# Altium integrated library TI Amplifiers and Linear Instrumentation Amplifier.IntLib: 274 symbols (part 8 of 10)
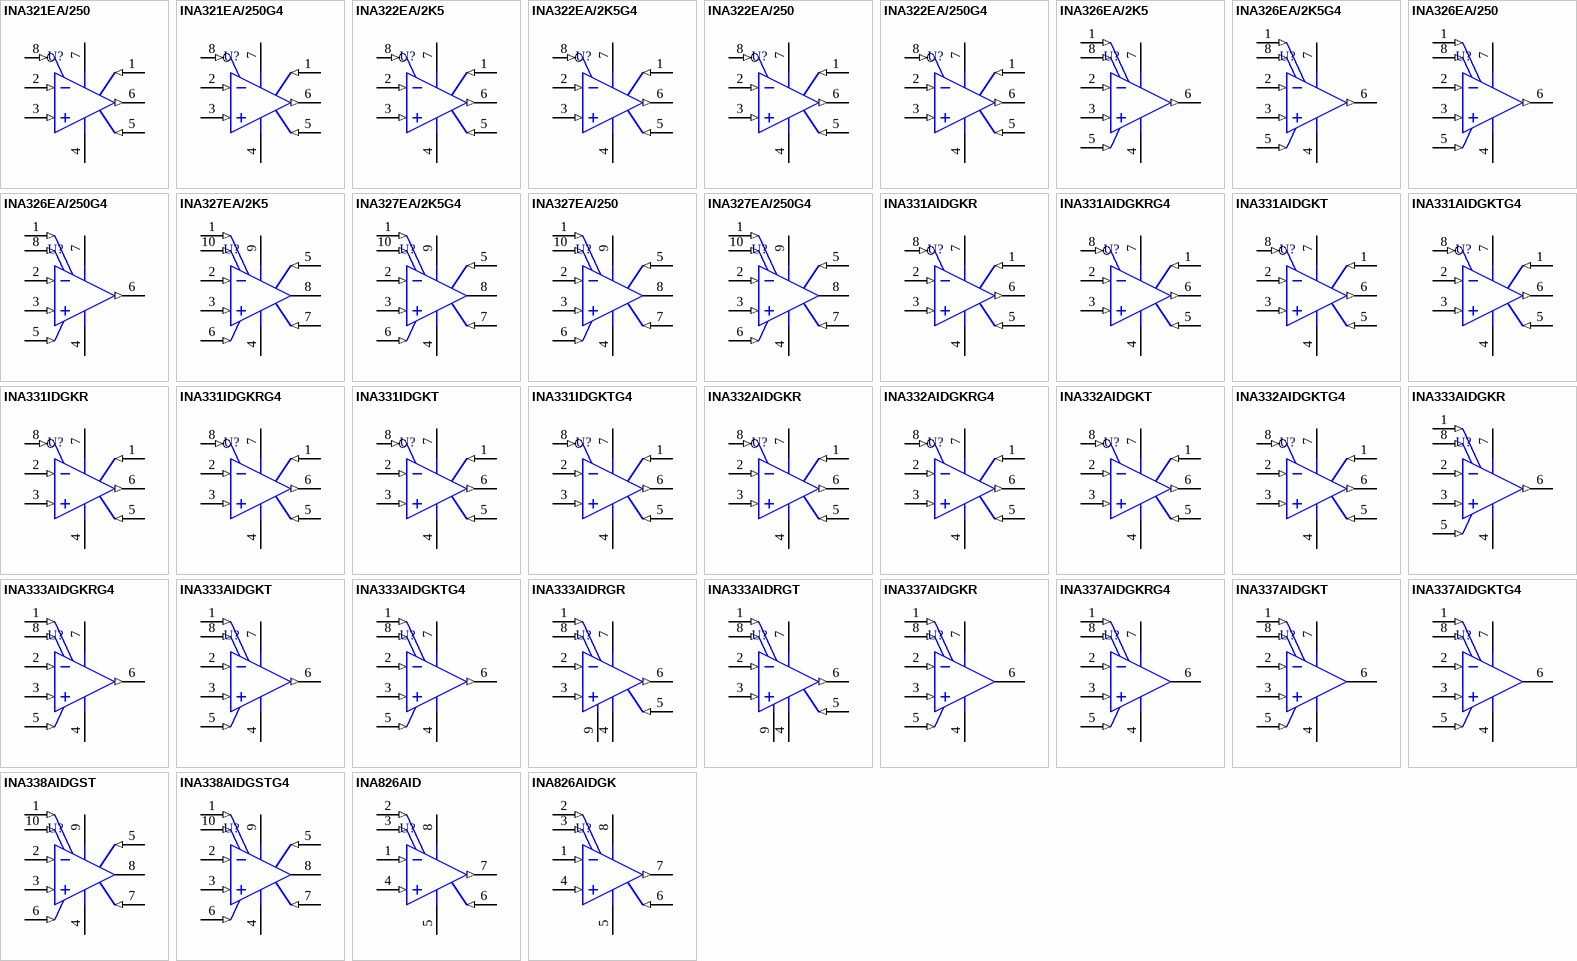
[diagram p15: symbols INA321EA/250 to INA826AIDGK]

## INA321EA/250
designator U?
Micropower Single-Supply CMOS Instrumentation Amplifier, -55 to 125 degC, 8-pin SOP (DGK8), Green (RoHS & no Sb/Br); Manufacturer: Texas Instruments; PartNumber: INA321EA/250; Bandwidth at G: 100(Min)(kHz)=50; CMRR(Min)(dB): 80; Gain(V/V): 5 to 1000; Input Bias Current (+/-)(Max)(nA): 0.01; Input Offset (+/-)(Max)(uV): 1000; Noise at 1kHz(Typ)(nV/rt(Hz)): 100; Number of Channels: 1; Quiescent Current (+/-)(Typ)(mA): 0.04; SubFamily: Single Supply; Vs(Max)(V): 5.5; Vs(Min)(V): 2.5; DatasheetVersion: SBOS168D; PackageVersion: 4073329/E, 05/2006; PackageReference: DGK8; PackageDescription: 8-Pin Thin Small Outline, Body 3 x 3 mm, Pitch 0.65 mm; Supplier 1: Digi-Key; Supplier Part Number 1: INA321EATR-ND; Supplier 2: Digi-Key; Supplier Part Number 2: INA321EACT-ND; Supplier 3: Digi-Key; Supplier Part Number 3: INA321EADKR-ND; Supplier 4: Newark; Supplier Part Number 4: 74C9871; Supplier 5: Mouser; Supplier Part Number 5: 595-INA321EA/250; Eco-Plan: Green (RoHS & no Sb/Br); Non-Linearity (+/-)(Max)(%): 0.01; Mounting Technology: Surface Mount; Code_JEDEC: MO-187; ComponentLink1Description: Manufacturer URL; ComponentLink1URL: http://www.ti.com/; ComponentLink2Description: Datasheet; ComponentLink2URL: http://www.ti.com/general/docs/lit/getliterature.tsp?genericPartNumber=INA321&fileType=pdf; ComponentLink3Description: Package Specification; ComponentLink3URL: http://www.ti.com/litv/pdf/mpds028d
footprint TI-DGK8_N (SOP, 8-Leads, Body 3.1x3.1mm, Pitch 0.65mm, IPC Medium Density)
footprint TI-DGK8_L (SOP, 8-Leads, Body 3.1x3.1mm, Pitch 0.65mm, IPC High Density)
footprint TI-DGK8_M (SOP, 8-Leads, Body 3.1x3.1mm, Pitch 0.65mm, IPC Low Density)
pins: 1 RG (in), 2 VIN- (in), 3 VIN+ (in), 4 V- (power), 5 REF (in), 6 VOUT (out), 7 V+ (power), 8 SHUTDOWN (in)

## INA321EA/250G4
designator U?
Micropower Single-Supply CMOS Instrumentation Amplifier, -55 to 125 degC, 8-pin SOP (DGK8), Green (RoHS & no Sb/Br); Manufacturer: Texas Instruments; PartNumber: INA321EA/250G4; Bandwidth at G: 100(Min)(kHz)=50; CMRR(Min)(dB): 80; Gain(V/V): 5 to 1000; Input Bias Current (+/-)(Max)(nA): 0.01; Input Offset (+/-)(Max)(uV): 1000; Noise at 1kHz(Typ)(nV/rt(Hz)): 100; Number of Channels: 1; Quiescent Current (+/-)(Typ)(mA): 0.04; SubFamily: Single Supply; Vs(Max)(V): 5.5; Vs(Min)(V): 2.5; DatasheetVersion: SBOS168D; PackageVersion: 4073329/E, 05/2006; PackageReference: DGK8; PackageDescription: 8-Pin Thin Small Outline, Body 3 x 3 mm, Pitch 0.65 mm; Supplier 1: Digi-Key; Supplier Part Number 1: INA321EA/250G4-ND; Supplier 2: Farnell; Supplier Part Number 2: 1206912; Supplier 3: Farnell; Supplier Part Number 3: 1206912RL; Supplier 4: Newark; Supplier Part Number 4: 96K5041; Supplier 5: Mouser; Supplier Part Number 5: 595-INA321EA/250G4; Eco-Plan: Green (RoHS & no Sb/Br); Non-Linearity (+/-)(Max)(%): 0.01; Mounting Technology: Surface Mount; Code_JEDEC: MO-187; ComponentLink1Description: Manufacturer URL; ComponentLink1URL: http://www.ti.com/; ComponentLink2Description: Datasheet; ComponentLink2URL: http://www.ti.com/general/docs/lit/getliterature.tsp?genericPartNumber=INA321&fileType=pdf; ComponentLink3Description: Package Specification; ComponentLink3URL: http://www.ti.com/litv/pdf/mpds028d
footprint TI-DGK8_N (SOP, 8-Leads, Body 3.1x3.1mm, Pitch 0.65mm, IPC Medium Density)
footprint TI-DGK8_L (SOP, 8-Leads, Body 3.1x3.1mm, Pitch 0.65mm, IPC High Density)
footprint TI-DGK8_M (SOP, 8-Leads, Body 3.1x3.1mm, Pitch 0.65mm, IPC Low Density)
pins: 1 RG (in), 2 VIN- (in), 3 VIN+ (in), 4 V- (power), 5 REF (in), 6 VOUT (out), 7 V+ (power), 8 SHUTDOWN (in)

## INA322EA/2K5
designator U?
Micropower Single-Supply CMOS Instrumentation Amplifier, -55 to 125 degC, 8-pin SOP (DGK8), Green (RoHS & no Sb/Br); Manufacturer: Texas Instruments; PartNumber: INA322EA/2K5; CMRR(Min)(dB): 60; Gain(V/V): 5 to 1000; Input Bias Current (+/-)(Max)(nA): 0.01; Input Offset (+/-)(Max)(uV): 10000; Noise at 1kHz(Typ)(nV/rt(Hz)): 100; Number of Channels: 1; Quiescent Current (+/-)(Typ)(mA): 0.04; SubFamily: Single Supply; Vs(Max)(V): 5.5; Vs(Min)(V): 2.5; DatasheetVersion: SBOS174B; PackageVersion: 4073329/E, 05/2006; PackageReference: DGK8; PackageDescription: 8-Pin Thin Small Outline, Body 3 x 3 mm, Pitch 0.65 mm; Supplier 1: Digi-Key; Supplier Part Number 1: INA322EA/2K5-ND; Supplier 2: Mouser; Supplier Part Number 2: 595-INA322EA/2K5; Eco-Plan: Green (RoHS & no Sb/Br); Non-Linearity (+/-)(Max)(%): 0.01; Mounting Technology: Surface Mount; Code_JEDEC: MO-187; ComponentLink1Description: Manufacturer URL; ComponentLink1URL: http://www.ti.com/; ComponentLink2Description: Datasheet; ComponentLink2URL: http://www.ti.com/general/docs/lit/getliterature.tsp?genericPartNumber=INA322&fileType=pdf; ComponentLink3Description: Package Specification; ComponentLink3URL: http://www.ti.com/litv/pdf/mpds028d
footprint TI-DGK8_N (SOP, 8-Leads, Body 3.1x3.1mm, Pitch 0.65mm, IPC Medium Density)
footprint TI-DGK8_L (SOP, 8-Leads, Body 3.1x3.1mm, Pitch 0.65mm, IPC High Density)
footprint TI-DGK8_M (SOP, 8-Leads, Body 3.1x3.1mm, Pitch 0.65mm, IPC Low Density)
pins: 1 RG (in), 2 VIN- (in), 3 VIN+ (in), 4 V- (power), 5 REF (in), 6 VOUT (out), 7 V+ (power), 8 SHUTDOWN (in)

## INA322EA/2K5G4
designator U?
Micropower Single-Supply CMOS Instrumentation Amplifier, -55 to 125 degC, 8-pin SOP (DGK8), Green (RoHS & no Sb/Br); Manufacturer: Texas Instruments; PartNumber: INA322EA/2K5G4; CMRR(Min)(dB): 60; Gain(V/V): 5 to 1000; Input Bias Current (+/-)(Max)(nA): 0.01; Input Offset (+/-)(Max)(uV): 10000; Noise at 1kHz(Typ)(nV/rt(Hz)): 100; Number of Channels: 1; Quiescent Current (+/-)(Typ)(mA): 0.04; SubFamily: Single Supply; Vs(Max)(V): 5.5; Vs(Min)(V): 2.5; DatasheetVersion: SBOS174B; PackageVersion: 4073329/E, 05/2006; PackageReference: DGK8; PackageDescription: 8-Pin Thin Small Outline, Body 3 x 3 mm, Pitch 0.65 mm; Supplier 1: Digi-Key; Supplier Part Number 1: INA322EA/2K5G4-ND; Supplier 2: Mouser; Supplier Part Number 2: 595-INA322EA/2K5G4; Eco-Plan: Green (RoHS & no Sb/Br); Non-Linearity (+/-)(Max)(%): 0.01; Mounting Technology: Surface Mount; Code_JEDEC: MO-187; ComponentLink1Description: Manufacturer URL; ComponentLink1URL: http://www.ti.com/; ComponentLink2Description: Datasheet; ComponentLink2URL: http://www.ti.com/general/docs/lit/getliterature.tsp?genericPartNumber=INA322&fileType=pdf; ComponentLink3Description: Package Specification; ComponentLink3URL: http://www.ti.com/litv/pdf/mpds028d
footprint TI-DGK8_N (SOP, 8-Leads, Body 3.1x3.1mm, Pitch 0.65mm, IPC Medium Density)
footprint TI-DGK8_L (SOP, 8-Leads, Body 3.1x3.1mm, Pitch 0.65mm, IPC High Density)
footprint TI-DGK8_M (SOP, 8-Leads, Body 3.1x3.1mm, Pitch 0.65mm, IPC Low Density)
pins: 1 RG (in), 2 VIN- (in), 3 VIN+ (in), 4 V- (power), 5 REF (in), 6 VOUT (out), 7 V+ (power), 8 SHUTDOWN (in)

## INA322EA/250
designator U?
Micropower Single-Supply CMOS Instrumentation Amplifier, -55 to 125 degC, 8-pin SOP (DGK8), Green (RoHS & no Sb/Br); Manufacturer: Texas Instruments; PartNumber: INA322EA/250; CMRR(Min)(dB): 60; Gain(V/V): 5 to 1000; Input Bias Current (+/-)(Max)(nA): 0.01; Input Offset (+/-)(Max)(uV): 10000; Noise at 1kHz(Typ)(nV/rt(Hz)): 100; Number of Channels: 1; Quiescent Current (+/-)(Typ)(mA): 0.04; SubFamily: Single Supply; Vs(Max)(V): 5.5; Vs(Min)(V): 2.5; DatasheetVersion: SBOS174B; PackageVersion: 4073329/E, 05/2006; PackageReference: DGK8; PackageDescription: 8-Pin Thin Small Outline, Body 3 x 3 mm, Pitch 0.65 mm; Supplier 1: Digi-Key; Supplier Part Number 1: INA322EATR-ND; Supplier 2: Digi-Key; Supplier Part Number 2: INA322EACT-ND; Supplier 3: Digi-Key; Supplier Part Number 3: INA322EADKR-ND; Supplier 4: Farnell; Supplier Part Number 4: 1645384; Supplier 5: Newark; Supplier Part Number 5: 74C9873; Supplier 6: Mouser; Supplier Part Number 6: 595-INA322EA/250; Eco-Plan: Green (RoHS & no Sb/Br); Non-Linearity (+/-)(Max)(%): 0.01; Mounting Technology: Surface Mount; Code_JEDEC: MO-187; ComponentLink1Description: Manufacturer URL; ComponentLink1URL: http://www.ti.com/; ComponentLink2Description: Datasheet; ComponentLink2URL: http://www.ti.com/general/docs/lit/getliterature.tsp?genericPartNumber=INA322&fileType=pdf; ComponentLink3Description: Package Specification; ComponentLink3URL: http://www.ti.com/litv/pdf/mpds028d
footprint TI-DGK8_N (SOP, 8-Leads, Body 3.1x3.1mm, Pitch 0.65mm, IPC Medium Density)
footprint TI-DGK8_L (SOP, 8-Leads, Body 3.1x3.1mm, Pitch 0.65mm, IPC High Density)
footprint TI-DGK8_M (SOP, 8-Leads, Body 3.1x3.1mm, Pitch 0.65mm, IPC Low Density)
pins: 1 RG (in), 2 VIN- (in), 3 VIN+ (in), 4 V- (power), 5 REF (in), 6 VOUT (out), 7 V+ (power), 8 SHUTDOWN (in)

## INA322EA/250G4
designator U?
Micropower Single-Supply CMOS Instrumentation Amplifier, -55 to 125 degC, 8-pin SOP (DGK8), Green (RoHS & no Sb/Br); Manufacturer: Texas Instruments; PartNumber: INA322EA/250G4; CMRR(Min)(dB): 60; Gain(V/V): 5 to 1000; Input Bias Current (+/-)(Max)(nA): 0.01; Input Offset (+/-)(Max)(uV): 10000; Noise at 1kHz(Typ)(nV/rt(Hz)): 100; Number of Channels: 1; Quiescent Current (+/-)(Typ)(mA): 0.04; SubFamily: Single Supply; Vs(Max)(V): 5.5; Vs(Min)(V): 2.5; DatasheetVersion: SBOS174B; PackageVersion: 4073329/E, 05/2006; PackageReference: DGK8; PackageDescription: 8-Pin Thin Small Outline, Body 3 x 3 mm, Pitch 0.65 mm; Supplier 1: Digi-Key; Supplier Part Number 1: INA322EA/250G4-ND; Supplier 2: Mouser; Supplier Part Number 2: 595-INA322EA/250G4; Eco-Plan: Green (RoHS & no Sb/Br); Non-Linearity (+/-)(Max)(%): 0.01; Mounting Technology: Surface Mount; Code_JEDEC: MO-187; ComponentLink1Description: Manufacturer URL; ComponentLink1URL: http://www.ti.com/; ComponentLink2Description: Datasheet; ComponentLink2URL: http://www.ti.com/general/docs/lit/getliterature.tsp?genericPartNumber=INA322&fileType=pdf; ComponentLink3Description: Package Specification; ComponentLink3URL: http://www.ti.com/litv/pdf/mpds028d
footprint TI-DGK8_N (SOP, 8-Leads, Body 3.1x3.1mm, Pitch 0.65mm, IPC Medium Density)
footprint TI-DGK8_L (SOP, 8-Leads, Body 3.1x3.1mm, Pitch 0.65mm, IPC High Density)
footprint TI-DGK8_M (SOP, 8-Leads, Body 3.1x3.1mm, Pitch 0.65mm, IPC Low Density)
pins: 1 RG (in), 2 VIN- (in), 3 VIN+ (in), 4 V- (power), 5 REF (in), 6 VOUT (out), 7 V+ (power), 8 SHUTDOWN (in)

## INA326EA/2K5
designator U?
Precision, Low Drift, CMOS Instrumentation Amplifier, -40 to 85 degC, 8-pin SOP (DGK8), Green (RoHS & no Sb/Br); Manufacturer: Texas Instruments; PartNumber: INA326EA/2K5; CMRR(Min)(dB): 100; Gain(V/V): Less than 0.1 to Greater than 1000; Input Bias Current (+/-)(Max)(nA): 2; Input Offset Drift (+/-)(Max)(uV/Degrees Celsius): 0.4; Noise at 1kHz(Typ)(nV/rt(Hz)): 33; Non-Linearity (+/-)(Max)(%): 0.01; Number of Channels: 1; Quiescent Current (+/-)(Typ)(mA): 2.4; SubFamily: Single Supply; Vs(Max)(V): 5.5; Vs(Min)(V): 2.7; DatasheetVersion: SBOS222D; PackageVersion: 4073329/E, 05/2006; PackageReference: DGK8; PackageDescription: 8-Pin Thin Small Outline, Body 3 x 3 mm, Pitch 0.65 mm; Supplier 1: Digi-Key; Supplier Part Number 1: INA326EA/2K5TR-ND; Supplier 2: Digi-Key; Supplier Part Number 2: INA326EA/2K5CT-ND; Supplier 3: Digi-Key; Supplier Part Number 3: INA326EA/2K5DKR-ND; Supplier 4: Farnell; Supplier Part Number 4: 1575438; Supplier 5: Newark; Supplier Part Number 5: 74C9874; Supplier 6: Newark; Supplier Part Number 6: 28X4261; Supplier 7: Mouser; Supplier Part Number 7: 595-INA326EA/2K5; Eco-Plan: Green (RoHS & no Sb/Br); Input Offset (+/-)(Max)(uV): 100; Mounting Technology: Surface Mount; Code_JEDEC: MO-187; ComponentLink1Description: Manufacturer URL; ComponentLink1URL: http://www.ti.com/; ComponentLink2Description: Datasheet; ComponentLink2URL: http://www.ti.com/general/docs/lit/getliterature.tsp?genericPartNumber=INA326&fileType=pdf; ComponentLink3Description: Package Specification; ComponentLink3URL: http://www.ti.com/litv/pdf/mpds028d
footprint TI-DGK8_N (SOP, 8-Leads, Body 3.1x3.1mm, Pitch 0.65mm, IPC Medium Density)
footprint TI-DGK8_L (SOP, 8-Leads, Body 3.1x3.1mm, Pitch 0.65mm, IPC High Density)
footprint TI-DGK8_M (SOP, 8-Leads, Body 3.1x3.1mm, Pitch 0.65mm, IPC Low Density)
pins: 1 R1 (in), 2 VIN- (in), 3 VIN+ (in), 4 V- (power), 5 R2 (in), 6 VO (out), 7 V+ (power), 8 R1 (in)

## INA326EA/2K5G4
designator U?
Precision, Low Drift, CMOS Instrumentation Amplifier, -40 to 85 degC, 8-pin SOP (DGK8), Green (RoHS & no Sb/Br); Manufacturer: Texas Instruments; PartNumber: INA326EA/2K5G4; CMRR(Min)(dB): 100; Gain(V/V): Less than 0.1 to Greater than 1000; Input Bias Current (+/-)(Max)(nA): 2; Input Offset Drift (+/-)(Max)(uV/Degrees Celsius): 0.4; Noise at 1kHz(Typ)(nV/rt(Hz)): 33; Non-Linearity (+/-)(Max)(%): 0.01; Number of Channels: 1; Quiescent Current (+/-)(Typ)(mA): 2.4; SubFamily: Single Supply; Vs(Max)(V): 5.5; Vs(Min)(V): 2.7; DatasheetVersion: SBOS222D; PackageVersion: 4073329/E, 05/2006; PackageReference: DGK8; PackageDescription: 8-Pin Thin Small Outline, Body 3 x 3 mm, Pitch 0.65 mm; Supplier 1: Digi-Key; Supplier Part Number 1: INA326EA/2K5G4-ND; Supplier 2: Newark; Supplier Part Number 2: 70K2796; Supplier 3: Mouser; Supplier Part Number 3: 595-INA326EA/2K5G4; Eco-Plan: Green (RoHS & no Sb/Br); Input Offset (+/-)(Max)(uV): 100; Mounting Technology: Surface Mount; Code_JEDEC: MO-187; ComponentLink1Description: Manufacturer URL; ComponentLink1URL: http://www.ti.com/; ComponentLink2Description: Datasheet; ComponentLink2URL: http://www.ti.com/general/docs/lit/getliterature.tsp?genericPartNumber=INA326&fileType=pdf; ComponentLink3Description: Package Specification; ComponentLink3URL: http://www.ti.com/litv/pdf/mpds028d
footprint TI-DGK8_N (SOP, 8-Leads, Body 3.1x3.1mm, Pitch 0.65mm, IPC Medium Density)
footprint TI-DGK8_L (SOP, 8-Leads, Body 3.1x3.1mm, Pitch 0.65mm, IPC High Density)
footprint TI-DGK8_M (SOP, 8-Leads, Body 3.1x3.1mm, Pitch 0.65mm, IPC Low Density)
pins: 1 R1 (in), 2 VIN- (in), 3 VIN+ (in), 4 V- (power), 5 R2 (in), 6 VO (out), 7 V+ (power), 8 R1 (in)

## INA326EA/250
designator U?
Precision, Low Drift, CMOS Instrumentation Amplifier, -40 to 85 degC, 8-pin SOP (DGK8), Green (RoHS & no Sb/Br); Manufacturer: Texas Instruments; PartNumber: INA326EA/250; CMRR(Min)(dB): 100; Gain(V/V): Less than 0.1 to Greater than 1000; Input Bias Current (+/-)(Max)(nA): 2; Input Offset Drift (+/-)(Max)(uV/Degrees Celsius): 0.4; Noise at 1kHz(Typ)(nV/rt(Hz)): 33; Non-Linearity (+/-)(Max)(%): 0.01; Number of Channels: 1; Quiescent Current (+/-)(Typ)(mA): 2.4; SubFamily: Single Supply; Vs(Max)(V): 5.5; Vs(Min)(V): 2.7; DatasheetVersion: SBOS222D; PackageVersion: 4073329/E, 05/2006; PackageReference: DGK8; PackageDescription: 8-Pin Thin Small Outline, Body 3 x 3 mm, Pitch 0.65 mm; Supplier 1: Digi-Key; Supplier Part Number 1: 296-15312-2-ND; Supplier 2: Digi-Key; Supplier Part Number 2: 296-15312-1-ND; Supplier 3: Digi-Key; Supplier Part Number 3: 296-15312-6-ND; Supplier 4: Farnell; Supplier Part Number 4: 1218192; Supplier 5: Newark; Supplier Part Number 5: 74K3817; Supplier 6: Newark; Supplier Part Number 6: 28X4262; Supplier 7: Mouser; Supplier Part Number 7: 595-INA326EA/250; Eco-Plan: Green (RoHS & no Sb/Br); Input Offset (+/-)(Max)(uV): 100; Mounting Technology: Surface Mount; Code_JEDEC: MO-187; ComponentLink1Description: Manufacturer URL; ComponentLink1URL: http://www.ti.com/; ComponentLink2Description: Datasheet; ComponentLink2URL: http://www.ti.com/general/docs/lit/getliterature.tsp?genericPartNumber=INA326&fileType=pdf; ComponentLink3Description: Package Specification; ComponentLink3URL: http://www.ti.com/litv/pdf/mpds028d
footprint TI-DGK8_N (SOP, 8-Leads, Body 3.1x3.1mm, Pitch 0.65mm, IPC Medium Density)
footprint TI-DGK8_L (SOP, 8-Leads, Body 3.1x3.1mm, Pitch 0.65mm, IPC High Density)
footprint TI-DGK8_M (SOP, 8-Leads, Body 3.1x3.1mm, Pitch 0.65mm, IPC Low Density)
pins: 1 R1 (in), 2 VIN- (in), 3 VIN+ (in), 4 V- (power), 5 R2 (in), 6 VO (out), 7 V+ (power), 8 R1 (in)

## INA326EA/250G4
designator U?
Precision, Low Drift, CMOS Instrumentation Amplifier, -40 to 85 degC, 8-pin SOP (DGK8), Green (RoHS & no Sb/Br); Manufacturer: Texas Instruments; PartNumber: INA326EA/250G4; CMRR(Min)(dB): 100; Gain(V/V): Less than 0.1 to Greater than 1000; Input Bias Current (+/-)(Max)(nA): 2; Input Offset Drift (+/-)(Max)(uV/Degrees Celsius): 0.4; Noise at 1kHz(Typ)(nV/rt(Hz)): 33; Non-Linearity (+/-)(Max)(%): 0.01; Number of Channels: 1; Quiescent Current (+/-)(Typ)(mA): 2.4; SubFamily: Single Supply; Vs(Max)(V): 5.5; Vs(Min)(V): 2.7; DatasheetVersion: SBOS222D; PackageVersion: 4073329/E, 05/2006; PackageReference: DGK8; PackageDescription: 8-Pin Thin Small Outline, Body 3 x 3 mm, Pitch 0.65 mm; Supplier 1: Digi-Key; Supplier Part Number 1: INA326EA/250G4-ND; Supplier 2: Farnell; Supplier Part Number 2: 1234688; Supplier 3: Farnell; Supplier Part Number 3: 1234688RL; Supplier 4: Newark; Supplier Part Number 4: 13M1606; Supplier 5: Newark; Supplier Part Number 5: 70K2797; Supplier 6: Mouser; Supplier Part Number 6: 595-INA326EA/250G4; Eco-Plan: Green (RoHS & no Sb/Br); Input Offset (+/-)(Max)(uV): 100; Mounting Technology: Surface Mount; Code_JEDEC: MO-187; ComponentLink1Description: Manufacturer URL; ComponentLink1URL: http://www.ti.com/; ComponentLink2Description: Datasheet; ComponentLink2URL: http://www.ti.com/general/docs/lit/getliterature.tsp?genericPartNumber=INA326&fileType=pdf; ComponentLink3Description: Package Specification; ComponentLink3URL: http://www.ti.com/litv/pdf/mpds028d
footprint TI-DGK8_N (SOP, 8-Leads, Body 3.1x3.1mm, Pitch 0.65mm, IPC Medium Density)
footprint TI-DGK8_L (SOP, 8-Leads, Body 3.1x3.1mm, Pitch 0.65mm, IPC High Density)
footprint TI-DGK8_M (SOP, 8-Leads, Body 3.1x3.1mm, Pitch 0.65mm, IPC Low Density)
pins: 1 R1 (in), 2 VIN- (in), 3 VIN+ (in), 4 V- (power), 5 R2 (in), 6 VO (out), 7 V+ (power), 8 R1 (in)

## INA327EA/2K5
designator U?
Precision, Low Drift, CMOS Instrumentation Amplifier with Shutdown, -40 to 85 degC, 10-pin SOP (DGS10), Green (RoHS & no Sb/Br); Manufacturer: Texas Instruments; PartNumber: INA327EA/2K5; CMRR(Min)(dB): 100; Gain(V/V): Less than 0.1 to Greater than 1000; Input Bias Current (+/-)(Max)(nA): 2; Input Offset Drift (+/-)(Max)(uV/Degrees Celsius): 0.4; Noise at 1kHz(Typ)(nV/rt(Hz)): 33; Non-Linearity (+/-)(Max)(%): 0.01; Number of Channels: 1; Quiescent Current (+/-)(Typ)(mA): 2.4; SubFamily: Single Supply; Vs(Max)(V): 5.5; Vs(Min)(V): 2.7; DatasheetVersion: SBOS222D; PackageVersion: 4073272/C, 02/2004; PackageReference: DGS10; PackageDescription: 10-Pin Plastic Small Outline, Body 3 x 3 mm, Pitch 0.5 mm; Supplier 1: Digi-Key; Supplier Part Number 1: INA327EA/2K5TR-ND; Supplier 2: Digi-Key; Supplier Part Number 2: INA327EA/2K5CT-ND; Supplier 3: Digi-Key; Supplier Part Number 3: INA327EA/2K5DKR-ND; Supplier 4: Mouser; Supplier Part Number 4: 595-INA327EA/2K5; Eco-Plan: Green (RoHS & no Sb/Br); Input Offset (+/-)(Max)(uV): 100; Mounting Technology: Surface Mount; Code_JEDEC: MO-153; ComponentLink1Description: Manufacturer URL; ComponentLink1URL: http://www.ti.com/; ComponentLink2Description: Datasheet; ComponentLink2URL: http://www.ti.com/general/docs/lit/getliterature.tsp?genericPartNumber=INA327&fileType=pdf; ComponentLink3Description: Package Specification; ComponentLink3URL: http://www.ti.com/lit/ml/mpds035b/mpds035b.pdf
footprint TI-DGS10_N (SOP, 10-Leads, Body 3.1x3.1mm, Pitch 0.5mm, IPC Medium Density)
footprint TI-DGS10_L (SOP, 10-Leads, Body 3.1x3.1mm, Pitch 0.5mm, IPC High Density)
footprint TI-DGS10_M (SOP, 10-Leads, Body 3.1x3.1mm, Pitch 0.5mm, IPC Low Density)
pins: 1 R1 (in), 2 VIN- (in), 3 VIN+ (in), 4 V- (power), 5 (CONNECT TO V+) (in), 6 ENABLE (in), 7 R2 (in), 8 VO (hiz), 9 V+ (power), 10 R1 (in)

## INA327EA/2K5G4
designator U?
Precision, Low Drift, CMOS Instrumentation Amplifier with Shutdown, -40 to 85 degC, 10-pin SOP (DGS10), Green (RoHS & no Sb/Br); Manufacturer: Texas Instruments; PartNumber: INA327EA/2K5G4; CMRR(Min)(dB): 100; Gain(V/V): Less than 0.1 to Greater than 1000; Input Bias Current (+/-)(Max)(nA): 2; Input Offset Drift (+/-)(Max)(uV/Degrees Celsius): 0.4; Noise at 1kHz(Typ)(nV/rt(Hz)): 33; Non-Linearity (+/-)(Max)(%): 0.01; Number of Channels: 1; Quiescent Current (+/-)(Typ)(mA): 2.4; SubFamily: Single Supply; Vs(Max)(V): 5.5; Vs(Min)(V): 2.7; DatasheetVersion: SBOS222D; PackageVersion: 4073272/C, 02/2004; PackageReference: DGS10; PackageDescription: 10-Pin Plastic Small Outline, Body 3 x 3 mm, Pitch 0.5 mm; Supplier 1: Digi-Key; Supplier Part Number 1: INA327EA/2K5G4-ND; Supplier 2: Newark; Supplier Part Number 2: 53K9316; Supplier 3: Mouser; Supplier Part Number 3: 595-INA327EA/2K5G4; Eco-Plan: Green (RoHS & no Sb/Br); Input Offset (+/-)(Max)(uV): 100; Mounting Technology: Surface Mount; Code_JEDEC: MO-153; ComponentLink1Description: Manufacturer URL; ComponentLink1URL: http://www.ti.com/; ComponentLink2Description: Datasheet; ComponentLink2URL: http://www.ti.com/general/docs/lit/getliterature.tsp?genericPartNumber=INA327&fileType=pdf; ComponentLink3Description: Package Specification; ComponentLink3URL: http://www.ti.com/lit/ml/mpds035b/mpds035b.pdf
footprint TI-DGS10_N (SOP, 10-Leads, Body 3.1x3.1mm, Pitch 0.5mm, IPC Medium Density)
footprint TI-DGS10_L (SOP, 10-Leads, Body 3.1x3.1mm, Pitch 0.5mm, IPC High Density)
footprint TI-DGS10_M (SOP, 10-Leads, Body 3.1x3.1mm, Pitch 0.5mm, IPC Low Density)
pins: 1 R1 (in), 2 VIN- (in), 3 VIN+ (in), 4 V- (power), 5 (CONNECT TO V+) (in), 6 ENABLE (in), 7 R2 (in), 8 VO (hiz), 9 V+ (power), 10 R1 (in)

## INA327EA/250
designator U?
Precision, Low Drift, CMOS Instrumentation Amplifier with Shutdown, -40 to 85 degC, 10-pin SOP (DGS10), Green (RoHS & no Sb/Br); Manufacturer: Texas Instruments; PartNumber: INA327EA/250; CMRR(Min)(dB): 100; Gain(V/V): Less than 0.1 to Greater than 1000; Input Bias Current (+/-)(Max)(nA): 2; Input Offset Drift (+/-)(Max)(uV/Degrees Celsius): 0.4; Noise at 1kHz(Typ)(nV/rt(Hz)): 33; Non-Linearity (+/-)(Max)(%): 0.01; Number of Channels: 1; Quiescent Current (+/-)(Typ)(mA): 2.4; SubFamily: Single Supply; Vs(Max)(V): 5.5; Vs(Min)(V): 2.7; DatasheetVersion: SBOS222D; PackageVersion: 4073272/C, 02/2004; PackageReference: DGS10; PackageDescription: 10-Pin Plastic Small Outline, Body 3 x 3 mm, Pitch 0.5 mm; Supplier 1: Digi-Key; Supplier Part Number 1: 296-15953-2-ND; Supplier 2: Digi-Key; Supplier Part Number 2: 296-15953-1-ND; Supplier 3: Digi-Key; Supplier Part Number 3: 296-15953-6-ND; Supplier 4: Farnell; Supplier Part Number 4: 1206913; Supplier 5: Newark; Supplier Part Number 5: 97K1935; Supplier 6: Newark; Supplier Part Number 6: 74C9877; Supplier 7: Mouser; Supplier Part Number 7: 595-INA327EA/250; Eco-Plan: Green (RoHS & no Sb/Br); Input Offset (+/-)(Max)(uV): 100; Mounting Technology: Surface Mount; Code_JEDEC: MO-153; ComponentLink1Description: Manufacturer URL; ComponentLink1URL: http://www.ti.com/; ComponentLink2Description: Datasheet; ComponentLink2URL: http://www.ti.com/general/docs/lit/getliterature.tsp?genericPartNumber=INA327&fileType=pdf; ComponentLink3Description: Package Specification; ComponentLink3URL: http://www.ti.com/lit/ml/mpds035b/mpds035b.pdf
footprint TI-DGS10_N (SOP, 10-Leads, Body 3.1x3.1mm, Pitch 0.5mm, IPC Medium Density)
footprint TI-DGS10_L (SOP, 10-Leads, Body 3.1x3.1mm, Pitch 0.5mm, IPC High Density)
footprint TI-DGS10_M (SOP, 10-Leads, Body 3.1x3.1mm, Pitch 0.5mm, IPC Low Density)
pins: 1 R1 (in), 2 VIN- (in), 3 VIN+ (in), 4 V- (power), 5 (CONNECT TO V+) (in), 6 ENABLE (in), 7 R2 (in), 8 VO (hiz), 9 V+ (power), 10 R1 (in)

## INA327EA/250G4
designator U?
Precision, Low Drift, CMOS Instrumentation Amplifier with Shutdown, -40 to 85 degC, 10-pin SOP (DGS10), Green (RoHS & no Sb/Br); Manufacturer: Texas Instruments; PartNumber: INA327EA/250G4; CMRR(Min)(dB): 100; Gain(V/V): Less than 0.1 to Greater than 1000; Input Bias Current (+/-)(Max)(nA): 2; Input Offset Drift (+/-)(Max)(uV/Degrees Celsius): 0.4; Noise at 1kHz(Typ)(nV/rt(Hz)): 33; Non-Linearity (+/-)(Max)(%): 0.01; Number of Channels: 1; Quiescent Current (+/-)(Typ)(mA): 2.4; SubFamily: Single Supply; Vs(Max)(V): 5.5; Vs(Min)(V): 2.7; DatasheetVersion: SBOS222D; PackageVersion: 4073272/C, 02/2004; PackageReference: DGS10; PackageDescription: 10-Pin Plastic Small Outline, Body 3 x 3 mm, Pitch 0.5 mm; Supplier 1: Digi-Key; Supplier Part Number 1: INA327EA/250G4-ND; Supplier 2: Mouser; Supplier Part Number 2: 595-INA327EA/250G4; Eco-Plan: Green (RoHS & no Sb/Br); Input Offset (+/-)(Max)(uV): 100; Mounting Technology: Surface Mount; Code_JEDEC: MO-153; ComponentLink1Description: Manufacturer URL; ComponentLink1URL: http://www.ti.com/; ComponentLink2Description: Datasheet; ComponentLink2URL: http://www.ti.com/general/docs/lit/getliterature.tsp?genericPartNumber=INA327&fileType=pdf; ComponentLink3Description: Package Specification; ComponentLink3URL: http://www.ti.com/lit/ml/mpds035b/mpds035b.pdf
footprint TI-DGS10_N (SOP, 10-Leads, Body 3.1x3.1mm, Pitch 0.5mm, IPC Medium Density)
footprint TI-DGS10_L (SOP, 10-Leads, Body 3.1x3.1mm, Pitch 0.5mm, IPC High Density)
footprint TI-DGS10_M (SOP, 10-Leads, Body 3.1x3.1mm, Pitch 0.5mm, IPC Low Density)
pins: 1 R1 (in), 2 VIN- (in), 3 VIN+ (in), 4 V- (power), 5 (CONNECT TO V+) (in), 6 ENABLE (in), 7 R2 (in), 8 VO (hiz), 9 V+ (power), 10 R1 (in)

## INA331AIDGKR
designator U?
Low-Power, Single Supply, CMOS, Instrumentation Amplifier, -55 to 125 degC, 8-pin SOP (DGK8), Green (RoHS & no Sb/Br); Manufacturer: Texas Instruments; PartNumber: INA331AIDGKR; CMRR(Min)(dB): 80; Gain(V/V): 5 to 1000; Input Bias Current (+/-)(Max)(nA): 0.01; Input Offset (+/-)(Max)(uV): 1000; Noise at 1kHz(Typ)(nV/rt(Hz)): 46; Number of Channels: 1; Quiescent Current (+/-)(Typ)(mA): 0.415; Vs(Max)(V): 5.5; Vs(Min)(V): 2.5; DatasheetVersion: SBOS215C; PackageVersion: 4073329/E, 05/2006; PackageReference: DGK8; PackageDescription: 8-Pin Thin Small Outline, Body 3 x 3 mm, Pitch 0.65 mm; Supplier 1: Digi-Key; Supplier Part Number 1: INA331AIDGKR-ND; Supplier 2: Newark; Supplier Part Number 2: 74C9878; Supplier 3: Mouser; Supplier Part Number 3: 595-INA331AIDGKR; Eco-Plan: Green (RoHS & no Sb/Br); Non-Linearity (+/-)(Max)(%): 0.01; SubFamily: Single Supply; Mounting Technology: Surface Mount; Code_JEDEC: MO-187; ComponentLink1Description: Manufacturer URL; ComponentLink1URL: http://www.ti.com/; ComponentLink2Description: Datasheet; ComponentLink2URL: http://www.ti.com/general/docs/lit/getliterature.tsp?genericPartNumber=INA331&fileType=pdf; ComponentLink3Description: Package Specification; ComponentLink3URL: http://www.ti.com/litv/pdf/mpds028d
footprint TI-DGK8_N (SOP, 8-Leads, Body 3.1x3.1mm, Pitch 0.65mm, IPC Medium Density)
footprint TI-DGK8_L (SOP, 8-Leads, Body 3.1x3.1mm, Pitch 0.65mm, IPC High Density)
footprint TI-DGK8_M (SOP, 8-Leads, Body 3.1x3.1mm, Pitch 0.65mm, IPC Low Density)
pins: 1 RG (in), 2 VIN- (in), 3 VIN+ (in), 4 V- (power), 5 REF (in), 6 VOUT (out), 7 V+ (power), 8 SHUTDOWN (in)

## INA331AIDGKRG4
designator U?
Low-Power, Single Supply, CMOS, Instrumentation Amplifier, -55 to 125 degC, 8-pin SOP (DGK8), Green (RoHS & no Sb/Br); Manufacturer: Texas Instruments; PartNumber: INA331AIDGKRG4; CMRR(Min)(dB): 80; Gain(V/V): 5 to 1000; Input Bias Current (+/-)(Max)(nA): 0.01; Input Offset (+/-)(Max)(uV): 1000; Noise at 1kHz(Typ)(nV/rt(Hz)): 46; Number of Channels: 1; Quiescent Current (+/-)(Typ)(mA): 0.415; Vs(Max)(V): 5.5; Vs(Min)(V): 2.5; DatasheetVersion: SBOS215C; PackageVersion: 4073329/E, 05/2006; PackageReference: DGK8; PackageDescription: 8-Pin Thin Small Outline, Body 3 x 3 mm, Pitch 0.65 mm; Supplier 1: Digi-Key; Supplier Part Number 1: INA331AIDGKRG4-ND; Supplier 2: Mouser; Supplier Part Number 2: 595-INA331AIDGKRG4; Eco-Plan: Green (RoHS & no Sb/Br); Non-Linearity (+/-)(Max)(%): 0.01; SubFamily: Single Supply; Mounting Technology: Surface Mount; Code_JEDEC: MO-187; ComponentLink1Description: Manufacturer URL; ComponentLink1URL: http://www.ti.com/; ComponentLink2Description: Datasheet; ComponentLink2URL: http://www.ti.com/general/docs/lit/getliterature.tsp?genericPartNumber=INA331&fileType=pdf; ComponentLink3Description: Package Specification; ComponentLink3URL: http://www.ti.com/litv/pdf/mpds028d
footprint TI-DGK8_N (SOP, 8-Leads, Body 3.1x3.1mm, Pitch 0.65mm, IPC Medium Density)
footprint TI-DGK8_L (SOP, 8-Leads, Body 3.1x3.1mm, Pitch 0.65mm, IPC High Density)
footprint TI-DGK8_M (SOP, 8-Leads, Body 3.1x3.1mm, Pitch 0.65mm, IPC Low Density)
pins: 1 RG (in), 2 VIN- (in), 3 VIN+ (in), 4 V- (power), 5 REF (in), 6 VOUT (out), 7 V+ (power), 8 SHUTDOWN (in)

## INA331AIDGKT
designator U?
Low-Power, Single Supply, CMOS, Instrumentation Amplifier, -55 to 125 degC, 8-pin SOP (DGK8), Green (RoHS & no Sb/Br); Manufacturer: Texas Instruments; PartNumber: INA331AIDGKT; CMRR(Min)(dB): 80; Gain(V/V): 5 to 1000; Input Bias Current (+/-)(Max)(nA): 0.01; Input Offset (+/-)(Max)(uV): 1000; Noise at 1kHz(Typ)(nV/rt(Hz)): 46; Number of Channels: 1; Quiescent Current (+/-)(Typ)(mA): 0.415; Vs(Max)(V): 5.5; Vs(Min)(V): 2.5; DatasheetVersion: SBOS215C; PackageVersion: 4073329/E, 05/2006; PackageReference: DGK8; PackageDescription: 8-Pin Thin Small Outline, Body 3 x 3 mm, Pitch 0.65 mm; Supplier 1: Digi-Key; Supplier Part Number 1: 296-12202-2-ND; Supplier 2: Digi-Key; Supplier Part Number 2: 296-12202-1-ND; Supplier 3: Digi-Key; Supplier Part Number 3: 296-12202-6-ND; Supplier 4: Farnell; Supplier Part Number 4: 2323259; Supplier 5: Newark; Supplier Part Number 5: 96W2906; Supplier 6: Newark; Supplier Part Number 6: 74C9879; Supplier 7: Mouser; Supplier Part Number 7: 595-INA331AIDGKT; Eco-Plan: Green (RoHS & no Sb/Br); Non-Linearity (+/-)(Max)(%): 0.01; SubFamily: Single Supply; Mounting Technology: Surface Mount; Code_JEDEC: MO-187; ComponentLink1Description: Manufacturer URL; ComponentLink1URL: http://www.ti.com/; ComponentLink2Description: Datasheet; ComponentLink2URL: http://www.ti.com/general/docs/lit/getliterature.tsp?genericPartNumber=INA331&fileType=pdf; ComponentLink3Description: Package Specification; ComponentLink3URL: http://www.ti.com/litv/pdf/mpds028d
footprint TI-DGK8_N (SOP, 8-Leads, Body 3.1x3.1mm, Pitch 0.65mm, IPC Medium Density)
footprint TI-DGK8_L (SOP, 8-Leads, Body 3.1x3.1mm, Pitch 0.65mm, IPC High Density)
footprint TI-DGK8_M (SOP, 8-Leads, Body 3.1x3.1mm, Pitch 0.65mm, IPC Low Density)
pins: 1 RG (in), 2 VIN- (in), 3 VIN+ (in), 4 V- (power), 5 REF (in), 6 VOUT (out), 7 V+ (power), 8 SHUTDOWN (in)

## INA331AIDGKTG4
designator U?
Low-Power, Single Supply, CMOS, Instrumentation Amplifier, -55 to 125 degC, 8-pin SOP (DGK8), Green (RoHS & no Sb/Br); Manufacturer: Texas Instruments; PartNumber: INA331AIDGKTG4; CMRR(Min)(dB): 80; Gain(V/V): 5 to 1000; Input Bias Current (+/-)(Max)(nA): 0.01; Input Offset (+/-)(Max)(uV): 1000; Noise at 1kHz(Typ)(nV/rt(Hz)): 46; Number of Channels: 1; Quiescent Current (+/-)(Typ)(mA): 0.415; Vs(Max)(V): 5.5; Vs(Min)(V): 2.5; DatasheetVersion: SBOS215C; PackageVersion: 4073329/E, 05/2006; PackageReference: DGK8; PackageDescription: 8-Pin Thin Small Outline, Body 3 x 3 mm, Pitch 0.65 mm; Supplier 1: Digi-Key; Supplier Part Number 1: INA331AIDGKTG4-ND; Supplier 2: Mouser; Supplier Part Number 2: 595-INA331AIDGKTG4; Eco-Plan: Green (RoHS & no Sb/Br); Non-Linearity (+/-)(Max)(%): 0.01; SubFamily: Single Supply; Mounting Technology: Surface Mount; Code_JEDEC: MO-187; ComponentLink1Description: Manufacturer URL; ComponentLink1URL: http://www.ti.com/; ComponentLink2Description: Datasheet; ComponentLink2URL: http://www.ti.com/general/docs/lit/getliterature.tsp?genericPartNumber=INA331&fileType=pdf; ComponentLink3Description: Package Specification; ComponentLink3URL: http://www.ti.com/litv/pdf/mpds028d
footprint TI-DGK8_N (SOP, 8-Leads, Body 3.1x3.1mm, Pitch 0.65mm, IPC Medium Density)
footprint TI-DGK8_L (SOP, 8-Leads, Body 3.1x3.1mm, Pitch 0.65mm, IPC High Density)
footprint TI-DGK8_M (SOP, 8-Leads, Body 3.1x3.1mm, Pitch 0.65mm, IPC Low Density)
pins: 1 RG (in), 2 VIN- (in), 3 VIN+ (in), 4 V- (power), 5 REF (in), 6 VOUT (out), 7 V+ (power), 8 SHUTDOWN (in)

## INA331IDGKR
designator U?
Low-Power, Single Supply, CMOS, Instrumentation Amplifier, -55 to 125 degC, 8-pin SOP (DGK8), Green (RoHS & no Sb/Br); Manufacturer: Texas Instruments; PartNumber: INA331IDGKR; CMRR(Min)(dB): 90; Gain(V/V): 5 to 1000; Input Bias Current (+/-)(Max)(nA): 0.01; Input Offset (+/-)(Max)(uV): 500; Noise at 1kHz(Typ)(nV/rt(Hz)): 46; Number of Channels: 1; Quiescent Current (+/-)(Typ)(mA): 0.415; Vs(Max)(V): 5.5; Vs(Min)(V): 2.5; DatasheetVersion: SBOS215C; PackageVersion: 4073329/E, 05/2006; PackageReference: DGK8; PackageDescription: 8-Pin Thin Small Outline, Body 3 x 3 mm, Pitch 0.65 mm; Supplier 1: Digi-Key; Supplier Part Number 1: INA331IDGKR-ND; Supplier 2: Newark; Supplier Part Number 2: 74C9880; Supplier 3: Mouser; Supplier Part Number 3: 595-INA331IDGKR; Eco-Plan: Green (RoHS & no Sb/Br); Non-Linearity (+/-)(Max)(%): 0.01; SubFamily: Single Supply; Mounting Technology: Surface Mount; Code_JEDEC: MO-187; ComponentLink1Description: Manufacturer URL; ComponentLink1URL: http://www.ti.com/; ComponentLink2Description: Datasheet; ComponentLink2URL: http://www.ti.com/general/docs/lit/getliterature.tsp?genericPartNumber=INA331&fileType=pdf; ComponentLink3Description: Package Specification; ComponentLink3URL: http://www.ti.com/litv/pdf/mpds028d
footprint TI-DGK8_N (SOP, 8-Leads, Body 3.1x3.1mm, Pitch 0.65mm, IPC Medium Density)
footprint TI-DGK8_L (SOP, 8-Leads, Body 3.1x3.1mm, Pitch 0.65mm, IPC High Density)
footprint TI-DGK8_M (SOP, 8-Leads, Body 3.1x3.1mm, Pitch 0.65mm, IPC Low Density)
pins: 1 RG (in), 2 VIN- (in), 3 VIN+ (in), 4 V- (power), 5 REF (in), 6 VOUT (out), 7 V+ (power), 8 SHUTDOWN (in)

## INA331IDGKRG4
designator U?
Low-Power, Single Supply, CMOS, Instrumentation Amplifier, -55 to 125 degC, 8-pin SOP (DGK8), Green (RoHS & no Sb/Br); Manufacturer: Texas Instruments; PartNumber: INA331IDGKRG4; CMRR(Min)(dB): 90; Gain(V/V): 5 to 1000; Input Bias Current (+/-)(Max)(nA): 0.01; Input Offset (+/-)(Max)(uV): 500; Noise at 1kHz(Typ)(nV/rt(Hz)): 46; Number of Channels: 1; Quiescent Current (+/-)(Typ)(mA): 0.415; Vs(Max)(V): 5.5; Vs(Min)(V): 2.5; DatasheetVersion: SBOS215C; PackageVersion: 4073329/E, 05/2006; PackageReference: DGK8; PackageDescription: 8-Pin Thin Small Outline, Body 3 x 3 mm, Pitch 0.65 mm; Supplier 1: Digi-Key; Supplier Part Number 1: INA331IDGKRG4-ND; Supplier 2: Mouser; Supplier Part Number 2: 595-INA331IDGKRG4; Eco-Plan: Green (RoHS & no Sb/Br); Non-Linearity (+/-)(Max)(%): 0.01; SubFamily: Single Supply; Mounting Technology: Surface Mount; Code_JEDEC: MO-187; ComponentLink1Description: Manufacturer URL; ComponentLink1URL: http://www.ti.com/; ComponentLink2Description: Datasheet; ComponentLink2URL: http://www.ti.com/general/docs/lit/getliterature.tsp?genericPartNumber=INA331&fileType=pdf; ComponentLink3Description: Package Specification; ComponentLink3URL: http://www.ti.com/litv/pdf/mpds028d
footprint TI-DGK8_N (SOP, 8-Leads, Body 3.1x3.1mm, Pitch 0.65mm, IPC Medium Density)
footprint TI-DGK8_L (SOP, 8-Leads, Body 3.1x3.1mm, Pitch 0.65mm, IPC High Density)
footprint TI-DGK8_M (SOP, 8-Leads, Body 3.1x3.1mm, Pitch 0.65mm, IPC Low Density)
pins: 1 RG (in), 2 VIN- (in), 3 VIN+ (in), 4 V- (power), 5 REF (in), 6 VOUT (out), 7 V+ (power), 8 SHUTDOWN (in)

## INA331IDGKT
designator U?
Low-Power, Single Supply, CMOS, Instrumentation Amplifier, -55 to 125 degC, 8-pin SOP (DGK8), Green (RoHS & no Sb/Br); Manufacturer: Texas Instruments; PartNumber: INA331IDGKT; CMRR(Min)(dB): 90; Gain(V/V): 5 to 1000; Input Bias Current (+/-)(Max)(nA): 0.01; Input Offset (+/-)(Max)(uV): 500; Noise at 1kHz(Typ)(nV/rt(Hz)): 46; Number of Channels: 1; Quiescent Current (+/-)(Typ)(mA): 0.415; Vs(Max)(V): 5.5; Vs(Min)(V): 2.5; DatasheetVersion: SBOS215C; PackageVersion: 4073329/E, 05/2006; PackageReference: DGK8; PackageDescription: 8-Pin Thin Small Outline, Body 3 x 3 mm, Pitch 0.65 mm; Supplier 1: Digi-Key; Supplier Part Number 1: 296-12203-2-ND; Supplier 2: Digi-Key; Supplier Part Number 2: 296-12203-1-ND; Supplier 3: Digi-Key; Supplier Part Number 3: 296-12203-6-ND; Supplier 4: Farnell; Supplier Part Number 4: 1459472; Supplier 5: Newark; Supplier Part Number 5: 86W5985; Supplier 6: Newark; Supplier Part Number 6: 74C9881; Supplier 7: Mouser; Supplier Part Number 7: 595-INA331IDGKT; Eco-Plan: Green (RoHS & no Sb/Br); Non-Linearity (+/-)(Max)(%): 0.01; SubFamily: Single Supply; Mounting Technology: Surface Mount; Code_JEDEC: MO-187; ComponentLink1Description: Manufacturer URL; ComponentLink1URL: http://www.ti.com/; ComponentLink2Description: Datasheet; ComponentLink2URL: http://www.ti.com/general/docs/lit/getliterature.tsp?genericPartNumber=INA331&fileType=pdf; ComponentLink3Description: Package Specification; ComponentLink3URL: http://www.ti.com/litv/pdf/mpds028d
footprint TI-DGK8_N (SOP, 8-Leads, Body 3.1x3.1mm, Pitch 0.65mm, IPC Medium Density)
footprint TI-DGK8_L (SOP, 8-Leads, Body 3.1x3.1mm, Pitch 0.65mm, IPC High Density)
footprint TI-DGK8_M (SOP, 8-Leads, Body 3.1x3.1mm, Pitch 0.65mm, IPC Low Density)
pins: 1 RG (in), 2 VIN- (in), 3 VIN+ (in), 4 V- (power), 5 REF (in), 6 VOUT (out), 7 V+ (power), 8 SHUTDOWN (in)

## INA331IDGKTG4
designator U?
Low-Power, Single Supply, CMOS, Instrumentation Amplifier, -55 to 125 degC, 8-pin SOP (DGK8), Green (RoHS & no Sb/Br); Manufacturer: Texas Instruments; PartNumber: INA331IDGKTG4; CMRR(Min)(dB): 90; Gain(V/V): 5 to 1000; Input Bias Current (+/-)(Max)(nA): 0.01; Input Offset (+/-)(Max)(uV): 500; Noise at 1kHz(Typ)(nV/rt(Hz)): 46; Number of Channels: 1; Quiescent Current (+/-)(Typ)(mA): 0.415; Vs(Max)(V): 5.5; Vs(Min)(V): 2.5; DatasheetVersion: SBOS215C; PackageVersion: 4073329/E, 05/2006; PackageReference: DGK8; PackageDescription: 8-Pin Thin Small Outline, Body 3 x 3 mm, Pitch 0.65 mm; Supplier 1: Digi-Key; Supplier Part Number 1: INA331IDGKTG4-ND; Supplier 2: Mouser; Supplier Part Number 2: 595-INA331IDGKTG4; Eco-Plan: Green (RoHS & no Sb/Br); Non-Linearity (+/-)(Max)(%): 0.01; SubFamily: Single Supply; Mounting Technology: Surface Mount; Code_JEDEC: MO-187; ComponentLink1Description: Manufacturer URL; ComponentLink1URL: http://www.ti.com/; ComponentLink2Description: Datasheet; ComponentLink2URL: http://www.ti.com/general/docs/lit/getliterature.tsp?genericPartNumber=INA331&fileType=pdf; ComponentLink3Description: Package Specification; ComponentLink3URL: http://www.ti.com/litv/pdf/mpds028d
footprint TI-DGK8_N (SOP, 8-Leads, Body 3.1x3.1mm, Pitch 0.65mm, IPC Medium Density)
footprint TI-DGK8_L (SOP, 8-Leads, Body 3.1x3.1mm, Pitch 0.65mm, IPC High Density)
footprint TI-DGK8_M (SOP, 8-Leads, Body 3.1x3.1mm, Pitch 0.65mm, IPC Low Density)
pins: 1 RG (in), 2 VIN- (in), 3 VIN+ (in), 4 V- (power), 5 REF (in), 6 VOUT (out), 7 V+ (power), 8 SHUTDOWN (in)

## INA332AIDGKR
designator U?
Low-Power, Single Supply, CMOS, Low Cost, Instrumentation Amplifier, -55 to 125 degC, 8-pin SOP (DGK8), Green (RoHS & no Sb/Br); Manufacturer: Texas Instruments; PartNumber: INA332AIDGKR; CMRR(Min)(dB): 60; Gain(V/V): 5 to 1000; Input Bias Current (+/-)(Max)(nA): 0.01; Input Offset (+/-)(Max)(uV): 8000; Noise at 1kHz(Typ)(nV/rt(Hz)): 46; Number of Channels: 1; Quiescent Current (+/-)(Typ)(mA): 0.415; Vs(Max)(V): 5.5; Vs(Min)(V): 2.5; DatasheetVersion: SBOS216B; PackageVersion: 4073329/E, 05/2006; PackageReference: DGK8; PackageDescription: 8-Pin Thin Small Outline, Body 3 x 3 mm, Pitch 0.65 mm; Supplier 1: Digi-Key; Supplier Part Number 1: INA332AIDGKR-ND; Supplier 2: Newark; Supplier Part Number 2: 74C9882; Supplier 3: Mouser; Supplier Part Number 3: 595-INA332AIDGKR; Eco-Plan: Green (RoHS & no Sb/Br); Non-Linearity (+/-)(Max)(%): 0.01; SubFamily: Single Supply; Mounting Technology: Surface Mount; Code_JEDEC: MO-187; ComponentLink1Description: Manufacturer URL; ComponentLink1URL: http://www.ti.com/; ComponentLink2Description: Datasheet; ComponentLink2URL: http://www.ti.com/general/docs/lit/getliterature.tsp?genericPartNumber=INA332&fileType=pdf; ComponentLink3Description: Package Specification; ComponentLink3URL: http://www.ti.com/litv/pdf/mpds028d
footprint TI-DGK8_N (SOP, 8-Leads, Body 3.1x3.1mm, Pitch 0.65mm, IPC Medium Density)
footprint TI-DGK8_L (SOP, 8-Leads, Body 3.1x3.1mm, Pitch 0.65mm, IPC High Density)
footprint TI-DGK8_M (SOP, 8-Leads, Body 3.1x3.1mm, Pitch 0.65mm, IPC Low Density)
pins: 1 RG (in), 2 VIN- (in), 3 VIN+ (in), 4 V- (power), 5 REF (in), 6 VOUT (out), 7 V+ (power), 8 SHUTDOWN (in)

## INA332AIDGKRG4
designator U?
Low-Power, Single Supply, CMOS, Low Cost, Instrumentation Amplifier, -55 to 125 degC, 8-pin SOP (DGK8), Green (RoHS & no Sb/Br); Manufacturer: Texas Instruments; PartNumber: INA332AIDGKRG4; CMRR(Min)(dB): 60; Gain(V/V): 5 to 1000; Input Bias Current (+/-)(Max)(nA): 0.01; Input Offset (+/-)(Max)(uV): 8000; Noise at 1kHz(Typ)(nV/rt(Hz)): 46; Number of Channels: 1; Quiescent Current (+/-)(Typ)(mA): 0.415; Vs(Max)(V): 5.5; Vs(Min)(V): 2.5; DatasheetVersion: SBOS216B; PackageVersion: 4073329/E, 05/2006; PackageReference: DGK8; PackageDescription: 8-Pin Thin Small Outline, Body 3 x 3 mm, Pitch 0.65 mm; Supplier 1: Digi-Key; Supplier Part Number 1: INA332AIDGKRG4-ND; Supplier 2: Mouser; Supplier Part Number 2: 595-INA332AIDGKRG4; Eco-Plan: Green (RoHS & no Sb/Br); Non-Linearity (+/-)(Max)(%): 0.01; SubFamily: Single Supply; Mounting Technology: Surface Mount; Code_JEDEC: MO-187; ComponentLink1Description: Manufacturer URL; ComponentLink1URL: http://www.ti.com/; ComponentLink2Description: Datasheet; ComponentLink2URL: http://www.ti.com/general/docs/lit/getliterature.tsp?genericPartNumber=INA332&fileType=pdf; ComponentLink3Description: Package Specification; ComponentLink3URL: http://www.ti.com/litv/pdf/mpds028d
footprint TI-DGK8_N (SOP, 8-Leads, Body 3.1x3.1mm, Pitch 0.65mm, IPC Medium Density)
footprint TI-DGK8_L (SOP, 8-Leads, Body 3.1x3.1mm, Pitch 0.65mm, IPC High Density)
footprint TI-DGK8_M (SOP, 8-Leads, Body 3.1x3.1mm, Pitch 0.65mm, IPC Low Density)
pins: 1 RG (in), 2 VIN- (in), 3 VIN+ (in), 4 V- (power), 5 REF (in), 6 VOUT (out), 7 V+ (power), 8 SHUTDOWN (in)

## INA332AIDGKT
designator U?
Low-Power, Single Supply, CMOS, Low Cost, Instrumentation Amplifier, -55 to 125 degC, 8-pin SOP (DGK8), Green (RoHS & no Sb/Br); Manufacturer: Texas Instruments; PartNumber: INA332AIDGKT; CMRR(Min)(dB): 60; Gain(V/V): 5 to 1000; Input Bias Current (+/-)(Max)(nA): 0.01; Input Offset (+/-)(Max)(uV): 8000; Noise at 1kHz(Typ)(nV/rt(Hz)): 46; Number of Channels: 1; Quiescent Current (+/-)(Typ)(mA): 0.415; Vs(Max)(V): 5.5; Vs(Min)(V): 2.5; DatasheetVersion: SBOS216B; PackageVersion: 4073329/E, 05/2006; PackageReference: DGK8; PackageDescription: 8-Pin Thin Small Outline, Body 3 x 3 mm, Pitch 0.65 mm; Supplier 1: Digi-Key; Supplier Part Number 1: 296-12204-2-ND; Supplier 2: Digi-Key; Supplier Part Number 2: 296-12204-1-ND; Supplier 3: Digi-Key; Supplier Part Number 3: 296-12204-6-ND; Supplier 4: Newark; Supplier Part Number 4: 74C9883; Supplier 5: Mouser; Supplier Part Number 5: 595-INA332AIDGKT; Eco-Plan: Green (RoHS & no Sb/Br); Non-Linearity (+/-)(Max)(%): 0.01; SubFamily: Single Supply; Mounting Technology: Surface Mount; Code_JEDEC: MO-187; ComponentLink1Description: Manufacturer URL; ComponentLink1URL: http://www.ti.com/; ComponentLink2Description: Datasheet; ComponentLink2URL: http://www.ti.com/general/docs/lit/getliterature.tsp?genericPartNumber=INA332&fileType=pdf; ComponentLink3Description: Package Specification; ComponentLink3URL: http://www.ti.com/litv/pdf/mpds028d
footprint TI-DGK8_N (SOP, 8-Leads, Body 3.1x3.1mm, Pitch 0.65mm, IPC Medium Density)
footprint TI-DGK8_L (SOP, 8-Leads, Body 3.1x3.1mm, Pitch 0.65mm, IPC High Density)
footprint TI-DGK8_M (SOP, 8-Leads, Body 3.1x3.1mm, Pitch 0.65mm, IPC Low Density)
pins: 1 RG (in), 2 VIN- (in), 3 VIN+ (in), 4 V- (power), 5 REF (in), 6 VOUT (out), 7 V+ (power), 8 SHUTDOWN (in)

## INA332AIDGKTG4
designator U?
Low-Power, Single Supply, CMOS, Low Cost, Instrumentation Amplifier, -55 to 125 degC, 8-pin SOP (DGK8), Green (RoHS & no Sb/Br); Manufacturer: Texas Instruments; PartNumber: INA332AIDGKTG4; CMRR(Min)(dB): 60; Gain(V/V): 5 to 1000; Input Bias Current (+/-)(Max)(nA): 0.01; Input Offset (+/-)(Max)(uV): 8000; Noise at 1kHz(Typ)(nV/rt(Hz)): 46; Number of Channels: 1; Quiescent Current (+/-)(Typ)(mA): 0.415; Vs(Max)(V): 5.5; Vs(Min)(V): 2.5; DatasheetVersion: SBOS216B; PackageVersion: 4073329/E, 05/2006; PackageReference: DGK8; PackageDescription: 8-Pin Thin Small Outline, Body 3 x 3 mm, Pitch 0.65 mm; Supplier 1: Digi-Key; Supplier Part Number 1: INA332AIDGKTG4-ND; Supplier 2: Newark; Supplier Part Number 2: 02M3416; Supplier 3: Mouser; Supplier Part Number 3: 595-INA332AIDGKTG4; Eco-Plan: Green (RoHS & no Sb/Br); Non-Linearity (+/-)(Max)(%): 0.01; SubFamily: Single Supply; Mounting Technology: Surface Mount; Code_JEDEC: MO-187; ComponentLink1Description: Manufacturer URL; ComponentLink1URL: http://www.ti.com/; ComponentLink2Description: Datasheet; ComponentLink2URL: http://www.ti.com/general/docs/lit/getliterature.tsp?genericPartNumber=INA332&fileType=pdf; ComponentLink3Description: Package Specification; ComponentLink3URL: http://www.ti.com/litv/pdf/mpds028d
footprint TI-DGK8_N (SOP, 8-Leads, Body 3.1x3.1mm, Pitch 0.65mm, IPC Medium Density)
footprint TI-DGK8_L (SOP, 8-Leads, Body 3.1x3.1mm, Pitch 0.65mm, IPC High Density)
footprint TI-DGK8_M (SOP, 8-Leads, Body 3.1x3.1mm, Pitch 0.65mm, IPC Low Density)
pins: 1 RG (in), 2 VIN- (in), 3 VIN+ (in), 4 V- (power), 5 REF (in), 6 VOUT (out), 7 V+ (power), 8 SHUTDOWN (in)

## INA333AIDGKR
designator U?
Low Power, Precision Instrumentation Amplifier, -40 to 125 degC, 8-pin SOP (DGK8), Green (RoHS & no Sb/Br); Manufacturer: Texas Instruments; PartNumber: INA333AIDGKR; CMRR(Min)(dB): 100; Gain(V/V): 1 to 1000; Input Bias Current (+/-)(Max)(nA): 0.2; Input Offset (+/-)(Max)(uV): 25; Input Offset Drift (+/-)(Max)(uV/Degrees Celsius): 0.1; Noise at 1kHz(Typ)(nV/rt(Hz)): 50; Number of Channels: 1; Output Offset (+/-)(Max)(uV): 75/G; Output Offset Drift (+/-)(Max)(uV/Degrees Celsius): 0.5/G; Quiescent Current (+/-)(Typ)(mA): 0.05; SubFamily: Single Supply; Vs(Max)(V): 5.5; Vs(Min)(V): 1.8; DatasheetVersion: SBOS445B; PackageVersion: 4073329/E, 05/2006; PackageReference: DGK8; PackageDescription: 8-Pin Thin Small Outline, Body 3 x 3 mm, Pitch 0.65 mm; Supplier 1: Digi-Key; Supplier Part Number 1: 296-23564-2-ND; Supplier 2: Digi-Key; Supplier Part Number 2: 296-23564-1-ND; Supplier 3: Digi-Key; Supplier Part Number 3: 296-23564-6-ND; Supplier 4: Farnell; Supplier Part Number 4: 2295977; Supplier 5: Newark; Supplier Part Number 5: 01P0907; Supplier 6: Newark; Supplier Part Number 6: 28X4263; Supplier 7: Mouser; Supplier Part Number 7: 595-INA333AIDGKR; Eco-Plan: Green (RoHS & no Sb/Br); Mounting Technology: Surface Mount; Code_JEDEC: MO-187; ComponentLink1Description: Manufacturer URL; ComponentLink1URL: http://www.ti.com/; ComponentLink2Description: Datasheet; ComponentLink2URL: http://www.ti.com/general/docs/lit/getliterature.tsp?genericPartNumber=INA333&fileType=pdf; ComponentLink3Description: Package Specification; ComponentLink3URL: http://www.ti.com/litv/pdf/mpds028d
footprint TI-DGK8_N (SOP, 8-Leads, Body 3.1x3.1mm, Pitch 0.65mm, IPC Medium Density)
footprint TI-DGK8_L (SOP, 8-Leads, Body 3.1x3.1mm, Pitch 0.65mm, IPC High Density)
footprint TI-DGK8_M (SOP, 8-Leads, Body 3.1x3.1mm, Pitch 0.65mm, IPC Low Density)
pins: 1 RG (in), 2 VIN- (in), 3 VIN+ (in), 4 V- (power), 5 REF (in), 6 VOUT (out), 7 V+ (power), 8 RG (in)

## INA333AIDGKRG4
designator U?
Low Power, Precision Instrumentation Amplifier, -40 to 125 degC, 8-pin SOP (DGK8), Green (RoHS & no Sb/Br); Manufacturer: Texas Instruments; PartNumber: INA333AIDGKRG4; CMRR(Min)(dB): 100; Gain(V/V): 1 to 1000; Input Bias Current (+/-)(Max)(nA): 0.2; Input Offset (+/-)(Max)(uV): 25; Input Offset Drift (+/-)(Max)(uV/Degrees Celsius): 0.1; Noise at 1kHz(Typ)(nV/rt(Hz)): 50; Number of Channels: 1; Output Offset (+/-)(Max)(uV): 75/G; Output Offset Drift (+/-)(Max)(uV/Degrees Celsius): 0.5/G; Quiescent Current (+/-)(Typ)(mA): 0.05; SubFamily: Single Supply; Vs(Max)(V): 5.5; Vs(Min)(V): 1.8; DatasheetVersion: SBOS445B; PackageVersion: 4073329/E, 05/2006; PackageReference: DGK8; PackageDescription: 8-Pin Thin Small Outline, Body 3 x 3 mm, Pitch 0.65 mm; Supplier 1: Digi-Key; Supplier Part Number 1: INA333AIDGKRG4-ND; Supplier 2: Newark; Supplier Part Number 2: 34P4600; Supplier 3: Mouser; Supplier Part Number 3: 595-INA333AIDGKRG4; Eco-Plan: Green (RoHS & no Sb/Br); Mounting Technology: Surface Mount; Code_JEDEC: MO-187; ComponentLink1Description: Manufacturer URL; ComponentLink1URL: http://www.ti.com/; ComponentLink2Description: Datasheet; ComponentLink2URL: http://www.ti.com/general/docs/lit/getliterature.tsp?genericPartNumber=INA333&fileType=pdf; ComponentLink3Description: Package Specification; ComponentLink3URL: http://www.ti.com/litv/pdf/mpds028d
footprint TI-DGK8_N (SOP, 8-Leads, Body 3.1x3.1mm, Pitch 0.65mm, IPC Medium Density)
footprint TI-DGK8_L (SOP, 8-Leads, Body 3.1x3.1mm, Pitch 0.65mm, IPC High Density)
footprint TI-DGK8_M (SOP, 8-Leads, Body 3.1x3.1mm, Pitch 0.65mm, IPC Low Density)
pins: 1 RG (in), 2 VIN- (in), 3 VIN+ (in), 4 V- (power), 5 REF (in), 6 VOUT (out), 7 V+ (power), 8 RG (in)